# Altium integrated library Motorola Power Mgt Supervisory Circuit.IntLib: 5 symbols
Pins are listed as number, name and electrical type; pins without a type are passive.

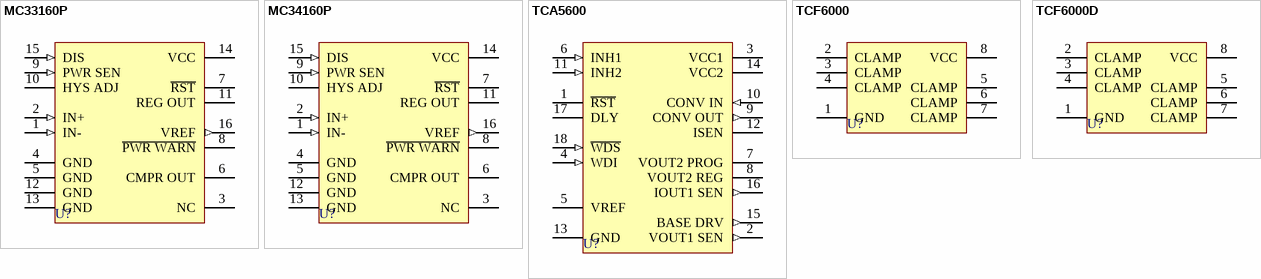
[diagram p0: symbols MC33160P to TCF6000D]

## MC33160P
designator U?
Microprocessor Voltage Regulator and Supervisory Circuit; Published: 17-Jul-2002; LatestRevisionDate: 06-Jun-2005; LatestRevisionNote: Stylized 3D Model Added.; DatasheetVersion: 1988; PackageReference: 648C-02; Publisher: Altium Limited; PackageDescription: DIP; 16 Leads; Row Spacing 7.62 mm; Pitch 2.54 mm; ComponentLink1Description: Manufacturer Link; ComponentLink1URL: http://www.onsemi.com/site/products/taxonomy/0,4438,503,00.html; ComponentLink2Description: Datasheet; ComponentLink2URL: http://www.onsemi.com/pub/Collateral/MC34160-D.PDF
footprint 648C-02 (DIP; 16 Leads; Row Spacing 7.62 mm; Pitch 2.54 mm)
3D model 648C-02 (DIP; 16 Leads; Row Spacing 7.62 mm; Pitch 2.54 mm)
pins: 1 IN- (in), 2 IN+ (in), 3 NC, 4 GND (power), 5 GND (power), 6 CMPR OUT (oc), 7 ~{RST} (oc), 8 ~{PWR WARN} (oc), 9 PWR SEN (in), 10 HYS ADJ, 11 REG OUT (power), 12 GND (power), 13 GND (power), 14 VCC (power), 15 DIS (in), 16 VREF (out)

## MC34160P
designator U?
Microprocessor Voltage Regulator and Supervisory Circuit; Published: 17-Jul-2002; LatestRevisionDate: 06-Jun-2005; LatestRevisionNote: Stylized 3D Model Added.; DatasheetVersion: 1988; PackageReference: 648C-02; Publisher: Altium Limited; PackageDescription: DIP; 16 Leads; Row Spacing 7.62 mm; Pitch 2.54 mm; ComponentLink1Description: Manufacturer Link; ComponentLink1URL: http://www.onsemi.com/site/products/taxonomy/0,4438,503,00.html; ComponentLink2Description: Datasheet; ComponentLink2URL: http://www.onsemi.com/pub/Collateral/MC34160-D.PDF
footprint 648C-02 (DIP; 16 Leads; Row Spacing 7.62 mm; Pitch 2.54 mm)
3D model 648C-02 (DIP; 16 Leads; Row Spacing 7.62 mm; Pitch 2.54 mm)
pins: 1 IN- (in), 2 IN+ (in), 3 NC, 4 GND (power), 5 GND (power), 6 CMPR OUT (oc), 7 ~{RST} (oc), 8 ~{PWR WARN} (oc), 9 PWR SEN (in), 10 HYS ADJ, 11 REG OUT (power), 12 GND (power), 13 GND (power), 14 VCC (power), 15 DIS (in), 16 VREF (out)

## TCA5600
designator U?
Universal Microprocessor Power Supply Controller; Published: 17-Jul-2002; LatestRevisionDate: 06-Jun-2005; LatestRevisionNote: Stylized 3D Model Added.; DatasheetVersion: 1988; PackageReference: 707-02; Publisher: Altium Limited; PackageDescription: DIP; 18 Leads; Row Spacing 7.62 mm; Pitch 2.54 mm; ComponentLink1Description: Manufacturer Link; ComponentLink1URL: http://www.onsemi.com/site/products/taxonomy/0,4438,503,00.html
footprint 707-02 (DIP; 18 Leads; Row Spacing 7.62 mm; Pitch 2.54 mm)
3D model 707-02 (DIP; 18 Leads; Row Spacing 7.62 mm; Pitch 2.54 mm)
pins: 1 ~{RST} (oc), 2 VOUT1 SEN (out), 3 VCC1 (power), 4 WDI (in), 5 VREF (power), 6 INH1 (in), 7 VOUT2 PROG (power), 8 VOUT2 REG (power), 9 CONV OUT (out), 10 CONV IN (in), 11 INH2 (in), 12 ISEN, 13 GND (power), 14 VCC2 (power), 15 BASE DRV (out), 16 IOUT1 SEN (out), 17 DLY, 18 ~{WDS} (in)

## TCF6000
designator U?
Peripheral Clamping Array; Published: 17-Jul-2002; LatestRevisionDate: 06-Jun-2005; LatestRevisionNote: Stylized 3D Model Added.; DatasheetVersion: 1988; PackageReference: 626-05; Publisher: Altium Limited; PackageDescription: DIP; 8 Leads; Row Spacing 7.62 mm; Pitch 2.54 mm; ComponentLink1Description: Manufacturer Link; ComponentLink1URL: http://www.onsemi.com/site/products/taxonomy/0,4438,503,00.html
footprint 626-05 (DIP; 8 Leads; Row Spacing 7.62 mm; Pitch 2.54 mm)
3D model 626-05 (DIP; 8 Leads; Row Spacing 7.62 mm; Pitch 2.54 mm)
pins: 1 GND (power), 2 CLAMP, 3 CLAMP, 4 CLAMP, 5 CLAMP, 6 CLAMP, 7 CLAMP, 8 VCC (power)

## TCF6000D
designator U?
Peripheral Clamping Array; Published: 17-Jul-2002; LatestRevisionDate: 13-Apr-2006; LatestRevisionNote: IPC-7351 Footprint Added.; DatasheetVersion: 1988; PackageReference: 751-02; Publisher: Altium Limited; PackageDescription: 8-Pin Small Outline Integrated Circuit 1.27 mm Pitch; Code_JEDEC: MS-012-AA; Code_IPC: SOIC127P600-8; ComponentLink1Description: Manufacturer Link; ComponentLink1URL: http://www.onsemi.com/site/products/taxonomy/0,4438,503,00.html
footprint 751-02_N (SOIC, 8-Leads, Body 4.9x3.9mm, Pitch 1.27mm, IPC Medium Density)
footprint 751-02_L (SOIC, 8-Leads, Body 4.9x3.9mm, Pitch 1.27mm, IPC High Density)
footprint 751-02_M (SOIC, 8-Leads, Body 4.9x3.9mm, Pitch 1.27mm, IPC Low Density)
3D model 751-02 (8-Pin Small Outline Integrated Circuit 1.27 mm Pitch)
pins: 1 GND (power), 2 CLAMP, 3 CLAMP, 4 CLAMP, 5 CLAMP, 6 CLAMP, 7 CLAMP, 8 VCC (power)